# EAGLE library part CVCO33CL (library crystec_vco)
Volatage Controlled Oscillator - VCO Vendor: CRYSTEK MICROWAVE Series: CVCO-33CL
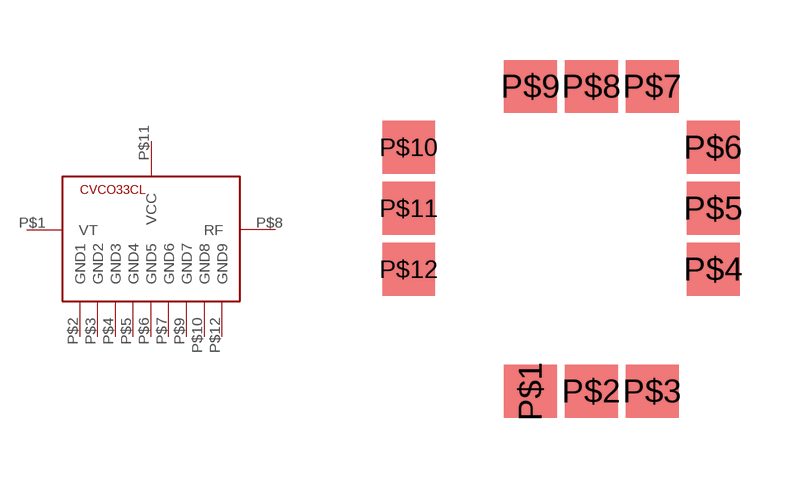
[diagram p1: symbol with the pads of CVCO33CL; footprint CVCO33CL]

Designator prefix -

## CVCO33CL  [CVCO33CL]
P$1  VT
P$2  GND1
P$3  GND2
P$4  GND3
P$5  GND4
P$6  GND5
P$7  GND6
P$8  RF
P$9  GND7
P$10  GND8
P$11  VCC
P$12  GND9

## Footprint CVCO33CL (pad centres in mm)
smd 1.32 x 1.32: P$1 3.048,0; P$2 4.572,0; P$3 6.096,0; P$4 7.62,3.048; P$5 7.62,4.572; P$6 7.62,6.096; P$7 6.096,7.62; P$8 4.572,7.62; P$9 3.048,7.62; P$10 0,6.096; P$11 0,4.572; P$12 0,3.048